# Altium schematic symbol library RT9193-18GB.SchLib: 1 symbol
Pins are listed as number, name and electrical type; pins without a type are passive.

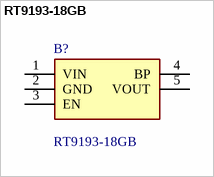
[diagram p0: symbol RT9193-18GB]

## RT9193-18GB
designator B?
IC REG LINEAR 1.8V 300MA SOT23-5; Manufacturer_Name: RICHTEK; Geometry.Height: 1.295mm; Manufacturer_Part_Number: RT9193-18GB; Mouser Part Number: *; Mouser Price/Stock: *; Arrow Part Number: *; Arrow Price/Stock: *; Datasheet Link: http://www.richtek.com/assets/product_file/RT9193/DS9193-17.pdf
footprint SOT94P279X130-5N
pins: 1 VIN, 2 GND, 3 EN, 4 BP, 5 VOUT